# Altium footprint library S7CAS_LIB2023.PcbLib: 100 footprints (part 4 of 7)
Each footprint in its own frame and in the unit in brackets; x right, y up, seen from the top. Pads: shape width x height; smd on the part's side, far side on the other; paste and mask are expansions set on the pad; w line width, h text height; cw(c..) or ccw(c..) is an arc to the next point about the centre after c.
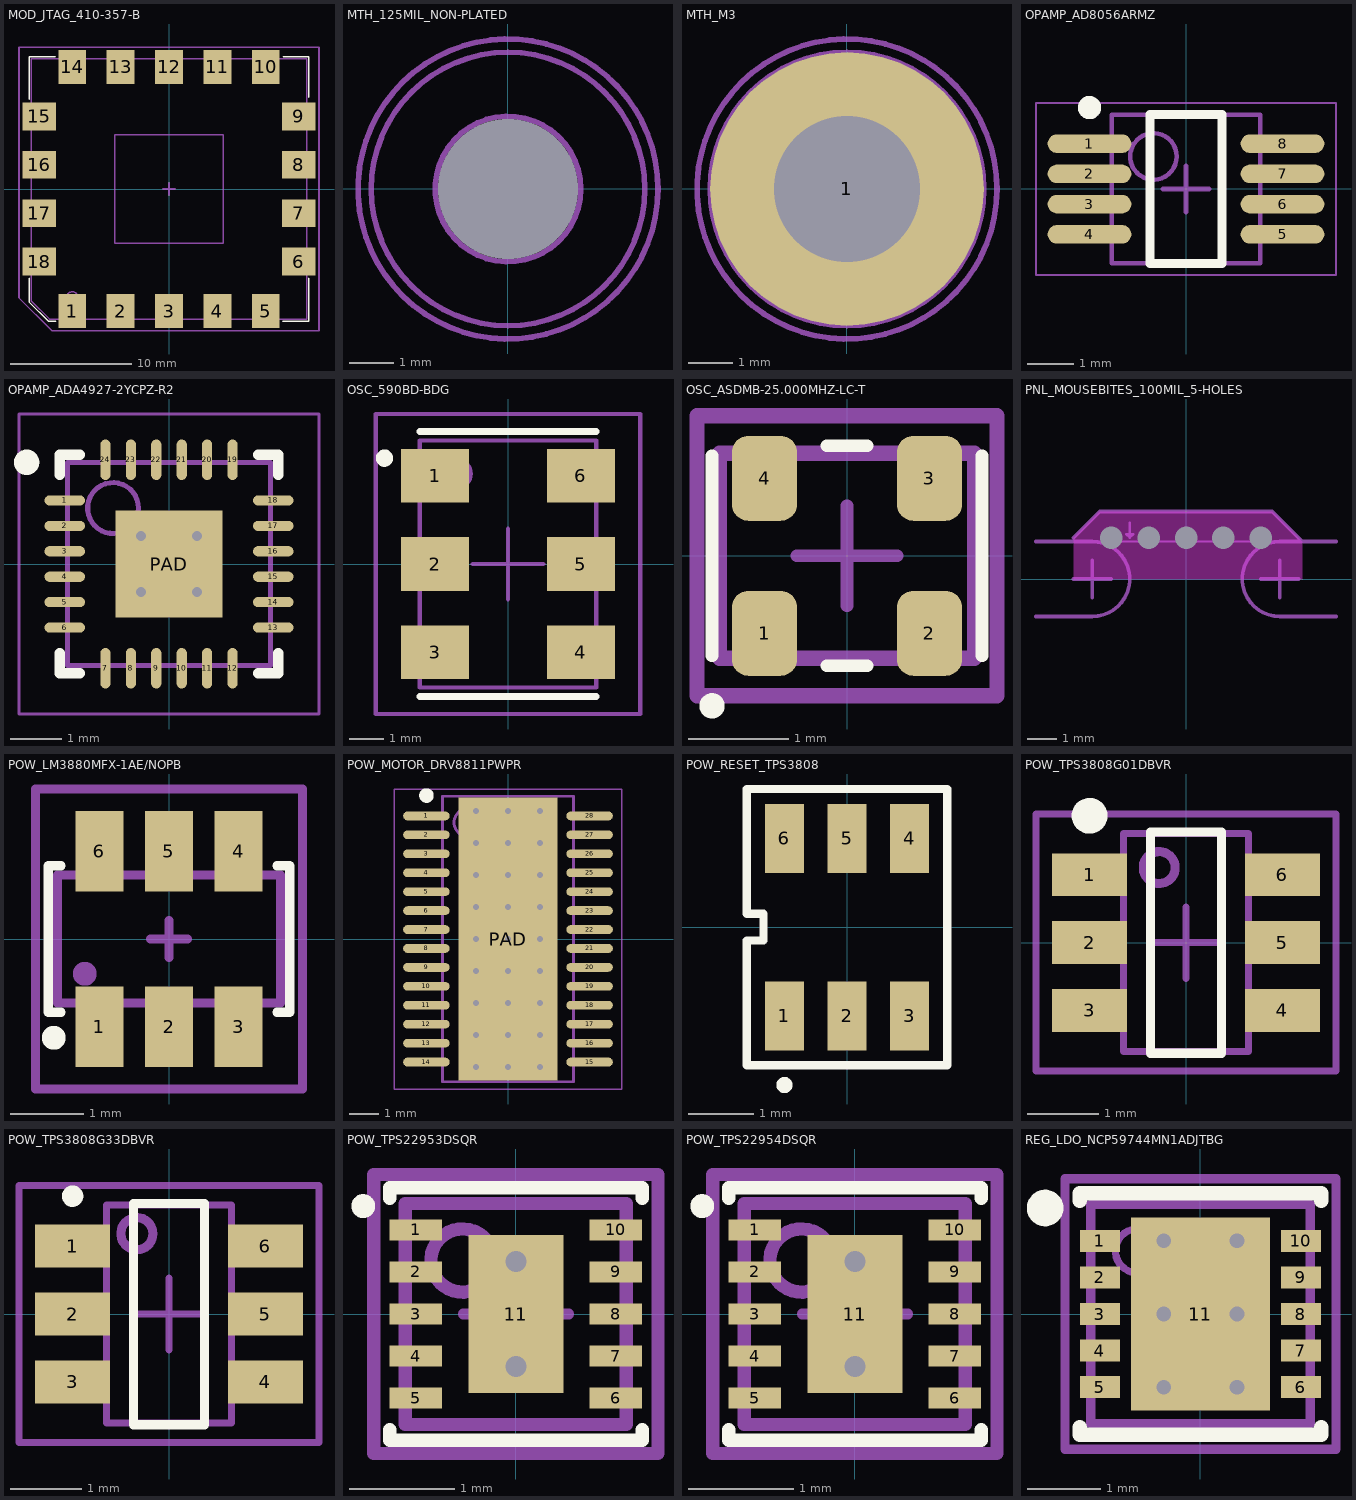
[diagram p3: the footprints below, top view; thin cyan lines are the x and y axes]

## MOD_JTAG_410-357-B [mm]
pads (18):
  rect 2.3x2.8 smd paste-0.025 mask+0.07: 1(-8,-10.1) 2(-4,-10.1) 3(0,-10.1) 4(4,-10.1) 5(8,-10.1) 10(8,10.1) 11(4,10.1) 12(0,10.1) 13(-4,10.1) 14(-8,10.1)
  rect 2.8x2.3 smd paste-0.025 mask+0.07: 6(10.725,-6) 7(10.725,-2) 8(10.725,2) 9(10.725,6) 15(-10.725,6) 16(-10.725,2) 17(-10.725,-2) 18(-10.725,-6)
Top Overlay:
  lines w0.127: -11.57,-7.39 -11.57,-9.339 -9.969,-10.94 -9.37,-10.94 ; -11.57,7.43 -11.57,10.94 -9.41,10.94 ; 9.39,-10.94 11.57,-10.94 11.57,-7.39 ; 9.45,10.94 11.57,10.94 11.57,7.59
Mechanical 1:
  circle w0.127: c-8,-9 r0.5
  lines w0.127: -11.38,-9.25 -9.88,-10.75 11.38,-10.75 11.38,10.75 -11.38,10.75 -11.38,-9.25 ; -4.5,-4.5 -4.5,4.5 4.5,4.5 4.5,-4.5 -4.5,-4.5
Mechanical 15:
  lines w0.127: -0.5,0 0.5,0 ; 0,-0.5 0,0.5 ; -12.4,-9 -9.7,-11.7 12.4,-11.7 12.4,11.7 -12.4,11.7 -12.4,-9
3D body: height 1.5, standoff 0, extent -11.38,-10.75 11.38,10.75
3D body: height 2.5, standoff 1.5, extent -4.5,-4.5 4.5,4.5

## MTH_125MIL_NON-PLATED [mm]
pads (1):
  round 0 hole 3.175 unplated paste-2539.97 mask+0.102: 0(0,0)
Mechanical 1:
  circle w0.127: c0,0 r3.1
  circle w0.127: c0,0 r1.65
Mechanical 2:
  circle w0.127: c0,0 r3.1
  circle w0.127: c0,0 r1.65
Mechanical 15:
  circle w0.127: c0,0 r3.4
  lines w0.127: -0.508,0 0.508,0 ; 0,-0.508 0,0.508
Mechanical 16:
  circle w0.127: c0,0 r3.4
  lines w0.127: -0.508,0 0.508,0 ; 0,-0.508 0,0.508

## MTH_M3 [mm]
pads (1):
  round 6.2 hole 3.3 paste-2539.97 mask+0.07: 1(0,0)
Mechanical 1:
  circle w0.127: c0,0 r3.1
  circle w0.127: c0,0 r1.65
Mechanical 2:
  circle w0.127: c0,0 r3.1
  circle w0.127: c0,0 r1.65
Mechanical 15:
  circle w0.127: c0,0 r3.4
  lines w0.127: -0.508,0 0.508,0 ; 0,-0.508 0,0.508
Mechanical 16:
  circle w0.127: c0,0 r3.4
  lines w0.127: -0.508,0 0.508,0 ; 0,-0.508 0,0.508

## OPAMP_AD8056ARMZ [mm] "SOP, 8-Leads, Body 3x3mm, Pitch 0.65mm, IPC Medium Density"
height 1.1
pads (8):
  oval 1.8x0.4 smd mask+0.07: 1(-2.075,0.975) 2(-2.075,0.325) 3(-2.075,-0.325) 4(-2.075,-0.975) 5(2.075,-0.975) 6(2.075,-0.325) 7(2.075,0.325) 8(2.075,0.975)
Top Overlay:
  circle w0.25: c-2.075,1.75 r0.125
  lines w0.2: -0.775,-1.6 -0.775,1.6 0.775,1.6 0.775,-1.6 -0.775,-1.6
Mechanical 13:
  circle w0.1: c-0.7,0.7 r0.5
  lines w0.1: -1.6,-1.6 -1.6,1.6 1.6,1.6 1.6,-1.6 -1.6,-1.6
Mechanical 15:
  lines w0.05: -3.225,-1.85 -3.225,1.85 3.225,1.85 3.225,-1.85 -3.225,-1.85
  lines w0.1: -0.5,0 0.5,0 ; 0,-0.5 0,0.5
3D body "User Library-DCT-8.STEP": height 1.3, standoff 0, extent -2.125,-1.525 2.075,1.525

## OPAMP_ADA4927-2YCPZ-R2 [mm] "QFN, 24-Leads, Body 4,00x4,00mm, Pitch 0,50mm, Thermal Pad 2,10x2,10mm, IPC Low Density"
height 1
pads (25):
  oval 0.8x0.2 smd mask+0.075: 1(-2.05,1.25) 2(-2.05,0.75) 3(-2.05,0.25) 4(-2.05,-0.25) 5(-2.05,-0.75) 6(-2.05,-1.25) 13(2.05,-1.25) 14(2.05,-0.75) 15(2.05,-0.25) 16(2.05,0.25) 17(2.05,0.75) 18(2.05,1.25)
  oval 0.2x0.8 smd mask+0.075: 7(-1.25,-2.05) 8(-0.75,-2.05) 9(-0.25,-2.05) 10(0.25,-2.05) 11(0.75,-2.05) 12(1.25,-2.05) 19(1.25,2.05) 20(0.75,2.05) 21(0.25,2.05) 22(-0.25,2.05) 23(-0.75,2.05) 24(-1.25,2.05)
  rect 2.1x2.1 smd mask+0.075: PAD(0,0)
via 0.55,-0.55 diameter 0.5 hole 0.2
via -0.55,-0.55 diameter 0.5 hole 0.2
via 0.55,0.55 diameter 0.5 hole 0.2
via -0.55,0.55 diameter 0.5 hole 0.2
Top Overlay:
  circle w0.25: c-2.8,2 r0.125
  lines w0.2: -2.15,-1.75 -2.15,-2.15 -1.75,-2.15 ; -2.15,1.75 -2.15,2.15 -1.75,2.15 ; 1.75,-2.15 2.15,-2.15 2.15,-1.75 ; 1.75,2.15 2.15,2.15 2.15,1.75
Mechanical 13:
  circle w0.1: c-1.1,1.1 r0.5
  lines w0.1: -2,-2 2,-2 2,2 -2,2 -2,-2
Mechanical 15:
  lines w0.05: -2.95,-2.95 2.95,-2.95 2.95,2.95 -2.95,2.95 -2.95,-2.95
  lines w0.1: -0.5,0 0.5,0 ; 0,-0.5 0,0.5
3D body: height 1, standoff 0.02, extent -2,-2 2,2

## OSC_590BD-BDG [mm]
pads (6):
  rect 1.95x1.55 smd paste-0.025 mask+0.07: 1(-2.1,2.54) 2(-2.1,0) 3(-2.1,-2.54) 4(2.1,-2.54) 5(2.1,0) 6(2.1,2.54)
Top Overlay:
  circle w0.25: c-3.556,3.048 r0.125
  lines w0.2: -2.54,-3.81 -1.346,-3.81 2.54,-3.81 ; -2.54,3.81 -1.346,3.81 2.54,3.81
Mechanical 1:
  circle w0.127: c-1.5,2.6 r0.424
  lines w0.127: -2.54,-3.556 -2.54,3.556 2.54,3.556 2.54,-3.556 -2.54,-3.556
Mechanical 15:
  lines w0.127: -1.016,0 1.016,0 ; 0,-1.016 0,1.016 ; -3.81,-4.318 -3.81,4.318 3.81,4.318 3.81,-4.318 -3.81,-4.318
3D body: height 1.28, standoff 0, extent -2.54,-3.556 2.54,3.556
3D body: height 1.3, standoff 0, extent -1.921,2.141 -1.124,2.939

## OSC_ASDMB-25.000MHZ-LC-T [mm]
pads (4):
  rrect50% 0.65x0.85 smd paste-0.025 mask+0.07: 1(-0.825,-0.775) 2(0.825,-0.775) 3(0.825,0.775) 4(-0.825,0.775)
Top Overlay:
  circle w0.127: c-1.35,-1.5 r0.064
  lines w0.127: -1.35,-1 -1.35,1 ; -0.2,-1.1 0.2,-1.1 ; -0.2,1.1 0.2,1.1 ; 1.35,-1 1.35,1
Mechanical 1:
  circle w0.254: c-0.825,-0.6 r0.079
  lines w0.152: -1.275,-1.025 -1.275,1.025 1.275,1.025 1.275,-1.025 -1.275,-1.025
Mechanical 15:
  lines w0.127: -0.5,0 0.5,0 ; 0,-0.5 0,0.5
  lines w0.152: -1.5,-1.4 1.5,-1.4 1.5,1.4 -1.5,1.4 -1.5,-1.4
3D body "ASDMB.STEP": height 0.83, standoff -0.01, extent -1.25,-1 1.25,1

## PNL_MOUSEBITES_100MIL_5-HOLES [mil]
pads (5):
  round 0 hole 30 unplated mask+4: 0(-100,55) 0(-50,55) 0(0,55) 0(50,55) 0(100,55)
Top Layer:
  pour cut-out: -145,50
Keep-Out Layer:
  region: -150,0 -150,55 -115,90 115,90 155,50 155,0
Mechanical 1:
  lines w3: -150,50 145,50 ; -75,75 -75,55 ; -75,55 -80,60 -70,60 -75,55
  lines w5: -200,-50 -125,-50 ccw(c-125,0) -125,50 -200,50 ; -150,0 -100,0 ; -125,-25 -125,25 ; 100,0 150,0 ; 125,-25 125,25 ; 200,-50 125,-50 cw(c125,0) 125,50 200,50
  text "Board Edge" at -85,80 h20
Mechanical 15:
  lines w5: -150,55 -115,90 115,90 155,50
Multi-Layer:
  pour cut-out: -115,90 115,90 155,50 155,0 -150,0 -150,55

## POW_LM3880MFX-1AE/NOPB [mm]
pads (6):
  rect 0.65x1.1 smd paste-0.025 mask+0.07: 1(-0.95,-1.2) 2(0,-1.2) 3(0.95,-1.2) 4(0.95,1.2) 5(0,1.2) 6(-0.95,1.2)
Top Overlay:
  circle w0.254: c-1.575,-1.35 r0.035
  lines w0.127: -1.475,-1 -1.65,-1 -1.65,1 -1.475,1 ; 1.475,-1 1.65,-1 1.65,1 1.475,1
Mechanical 1:
  circle w0.254: c-1.15,-0.475 r0.035
  lines w0.127: -1.525,-0.875 -1.525,0.875 1.525,0.875 1.525,-0.875 -1.525,-0.875
Mechanical 15:
  lines w0.127: -0.254,0 0.254,0 ; 0,-0.254 0,0.254 ; -1.825,-2.05 -1.825,2.05 1.825,2.05 1.825,-2.05 -1.825,-2.05
3D body "User Library-SOT-23-6.step": height 1.09, standoff 0, extent -1.394,-1.254 1.4,1.172

## POW_MOTOR_DRV8811PWPR [mm] "TSOP, 28-Leads, Body 9,70x4,40mm, Pitch 0,65mm, Thermal Pad 9,70x3,40mm, IPC Medium Density"
height 1.2
pads (29):
  oval 1.6x0.3 smd: 1(-2.8,4.225) 2(-2.8,3.575) 3(-2.8,2.925) 4(-2.8,2.275) 5(-2.8,1.625) 6(-2.8,0.975) 7(-2.8,0.325) 8(-2.8,-0.325) 9(-2.8,-0.975) 10(-2.8,-1.625) 11(-2.8,-2.275) 12(-2.8,-2.925) 13(-2.8,-3.575) 14(-2.8,-4.225) 15(2.8,-4.225) 16(2.8,-3.575) 17(2.8,-2.925) 18(2.8,-2.275) 19(2.8,-1.625) 20(2.8,-0.975) 21(2.8,-0.325) 22(2.8,0.325) 23(2.8,0.975) 24(2.8,1.625) 25(2.8,2.275) 26(2.8,2.925) 27(2.8,3.575) 28(2.8,4.225)
  rect 3.4x9.7 smd paste-15 mask-15: PAD(0,0)
via -1.1,4.4 diameter 0.5 hole 0.2
via 0,4.4 diameter 0.5 hole 0.2
via 1.1,4.4 diameter 0.5 hole 0.2
via -1.1,3.3 diameter 0.5 hole 0.2
via 0,3.3 diameter 0.5 hole 0.2
via 1.1,3.3 diameter 0.5 hole 0.2
via -1.1,2.2 diameter 0.5 hole 0.2
via 0,2.2 diameter 0.5 hole 0.2
via 1.1,2.2 diameter 0.5 hole 0.2
via -1.1,1.1 diameter 0.5 hole 0.2
via 0,1.1 diameter 0.5 hole 0.2
via 1.1,1.1 diameter 0.5 hole 0.2
via -1.1,0 diameter 0.5 hole 0.2
via 0,0 diameter 0.5 hole 0.2
via 1.1,0 diameter 0.5 hole 0.2
via -1.1,-1.1 diameter 0.5 hole 0.2
via 0,-1.1 diameter 0.5 hole 0.2
via 1.1,-1.1 diameter 0.5 hole 0.2
via -1.1,-2.2 diameter 0.5 hole 0.2
via 0,-2.2 diameter 0.5 hole 0.2
via 1.1,-2.2 diameter 0.5 hole 0.2
via -1.1,-3.3 diameter 0.5 hole 0.2
via 0,-3.3 diameter 0.5 hole 0.2
via 1.1,-3.3 diameter 0.5 hole 0.2
via -1.1,-4.4 diameter 0.5 hole 0.2
via 0,-4.4 diameter 0.5 hole 0.2
via 1.1,-4.4 diameter 0.5 hole 0.2
Top Overlay:
  circle w0.25: c-2.8,4.925 r0.125
Top Paste:
  rectangle: -1.55,-2.58 1.55,2.58
Top Solder:
  rectangle: -1.55,-2.58 1.55,2.58
Mechanical 13:
  circle w0.1: c-1.35,4 r0.5
  lines w0.1: -2.25,-4.9 -2.25,4.9 2.25,4.9 2.25,-4.9 -2.25,-4.9
Mechanical 15:
  lines w0.05: -3.9,-5.15 -3.9,5.15 3.9,5.15 3.9,-5.15 -3.9,-5.15
  lines w0.1: -0.5,0 0.5,0 ; 0,-0.5 0,0.5
3D body "PMIC_MOTOR_DRV8811PWPR.step": height 1.2, standoff 0, extent -3.2,-4.9 3.2,4.9

## POW_RESET_TPS3808 [mm]
pads (6):
  rect 0.6x1.05 smd paste-0.025 mask+0.07: 1(-0.95,-1.35) 2(0,-1.35) 3(0.95,-1.35) 4(0.95,1.35) 5(0,1.35) 6(-0.95,1.35)
Top Overlay:
  circle w0.127: c-0.95,-2.4 r0.06
  lines w0.127: -1.525,-2.1 1.525,-2.1 1.525,2.1 -1.525,2.1 -1.525,0.203 -1.269,0.203 -1.269,-0.203 -1.525,-0.203 -1.525,-2.1
3D body "SOT23-6.step": height 1.3, standoff 0, extent -1.5,-1.5 1.5,1.5

## POW_TPS3808G01DBVR [mm]
pads (6):
  rect 1.05x0.6 smd paste-0.025 mask+0.07: 1(-1.35,0.95) 2(-1.35,0) 3(-1.35,-0.95) 4(1.35,-0.95) 5(1.35,0) 6(1.35,0.95)
Top Overlay:
  circle w0.25: c-1.35,1.775 r0.125
  lines w0.127: -0.5,-1.55 -0.5,1.55 0.5,1.55 0.5,-1.55 -0.5,-1.55
Mechanical 1:
  circle w0.127: c-0.375,1.05 r0.224
  lines w0.1: -0.875,-1.525 0.875,-1.525 0.875,1.525 -0.875,1.525 -0.875,-1.525
Mechanical 15:
  lines w0.1: -0.5,0 0.5,0 ; 0,-0.5 0,0.5 ; -2.1,-1.8 2.1,-1.8 2.1,1.8 -2.1,1.8 -2.1,-1.8
3D body "SOT23127P600-8N.step": height 1.45, standoff 0, extent -1.5,-1.525 1.5,1.525

## POW_TPS3808G33DBVR [mm]
pads (6):
  rect 1.05x0.6 smd paste-0.025 mask+0.07: 1(-1.35,0.95) 2(-1.35,0) 3(-1.35,-0.95) 4(1.35,-0.95) 5(1.35,0) 6(1.35,0.95)
Top Overlay:
  circle w0.15: c-1.35,1.65 r0.075
  lines w0.127: -0.5,-1.55 0.5,-1.55 0.5,1.55 -0.5,1.55 -0.5,-1.55
Mechanical 1:
  circle w0.127: c-0.45,1.125 r0.225
  lines w0.1: -0.875,-1.525 -0.875,1.525 0.875,1.525 0.875,-1.525 -0.875,-1.525
Mechanical 15:
  lines w0.1: -0.5,0 0.5,0 ; 0,-0.5 0,0.5 ; -2.1,-1.8 -2.1,1.8 2.1,1.8 2.1,-1.8 -2.1,-1.8
3D body "SOT23127P600-8N.step": height 1.45, standoff 0, extent -1.5,-1.525 1.5,1.525

## POW_TPS22953DSQR [mm]
pads (11):
  rect 0.5x0.2 smd paste+0 mask+0.06: 1(-0.95,0.8) 2(-0.95,0.4) 3(-0.95,0) 4(-0.95,-0.4) 5(-0.95,-0.8) 6(0.95,-0.8) 7(0.95,-0.4) 8(0.95,0) 9(0.95,0.4) 10(0.95,0.8)
  rect 0.9x1.5 smd paste-5 mask+0.07: 11(0,0)
via 0,-0.5 diameter 0.4 hole 0.2
via 0,0.5 diameter 0.4 hole 0.2
Top Overlay:
  circle w0.127: c-1.45,1.025 r0.05
  lines w0.127: -1.2,-1.1 -1.2,-1.2 1.2,-1.2 1.2,-1.1 ; -1.2,1.1 -1.2,1.2 1.2,1.2 1.2,1.1
Top Paste:
  rectangle: -0.425,-0.69 0.425,0.69
Mechanical 1:
  circle w0.127: c-0.508,0.508 r0.3
  lines w0.127: -1.05,-1.05 1.05,-1.05 1.05,1.05 -1.05,1.05 -1.05,-1.05
Mechanical 15:
  lines w0.1: -0.5,0 0.5,0 ; 0,-0.5 0,0.5
  lines w0.127: -1.35,-1.325 1.35,-1.325 1.35,1.325 -1.35,1.325 -1.35,-1.325
3D body "PSON40P200X80_HS-11N.step": height 0.8, standoff 0, extent -1.051,-1.05 1.051,1.05

## POW_TPS22954DSQR [mm]
pads (11):
  rect 0.5x0.2 smd paste+0 mask+0.06: 1(-0.95,0.8) 2(-0.95,0.4) 3(-0.95,0) 4(-0.95,-0.4) 5(-0.95,-0.8) 6(0.95,-0.8) 7(0.95,-0.4) 8(0.95,0) 9(0.95,0.4) 10(0.95,0.8)
  rect 0.9x1.5 smd paste-5 mask+0.07: 11(0,0)
via 0,0.5 diameter 0.4 hole 0.2
via 0,-0.5 diameter 0.4 hole 0.2
Top Overlay:
  circle w0.127: c-1.45,1.025 r0.05
  lines w0.127: -1.2,-1.1 -1.2,-1.2 1.2,-1.2 1.2,-1.1 ; -1.2,1.1 -1.2,1.2 1.2,1.2 1.2,1.1
Top Paste:
  rectangle: -0.425,-0.69 0.425,0.69
Mechanical 1:
  circle w0.127: c-0.508,0.508 r0.3
  lines w0.127: -1.05,-1.05 -1.05,1.05 1.05,1.05 1.05,-1.05 -1.05,-1.05
Mechanical 15:
  lines w0.1: -0.5,0 0.5,0 ; 0,-0.5 0,0.5
  lines w0.127: -1.35,-1.325 -1.35,1.325 1.35,1.325 1.35,-1.325 -1.35,-1.325
3D body "PSON40P200X80_HS-11N.step": height 0.8, standoff 0, extent -1.051,-1.05 1.051,1.05

## REG_LDO_NCP59744MN1ADJTBG [mm]
pads (11):
  rect 0.55x0.3 smd paste-0.025 mask+0.04: 1(-1.375,1) 2(-1.375,0.5) 3(-1.375,0) 4(-1.375,-0.5) 5(-1.375,-1) 6(1.375,-1) 7(1.375,-0.5) 8(1.375,0) 9(1.375,0.5) 10(1.375,1)
  rect 1.9x2.64 smd paste-2.64 mask+0.03: 11(0,0)
via -0.5,0 diameter 0.4 hole 0.2
via 0.5,0 diameter 0.4 hole 0.2
via -0.5,1 diameter 0.4 hole 0.2
via -0.5,-1 diameter 0.4 hole 0.2
via 0.5,1 diameter 0.4 hole 0.2
via 0.5,-1 diameter 0.4 hole 0.2
Top Overlay:
  circle w0.25: c-2.125,1.45 r0.125
  lines w0.2: -1.65,-1.55 -1.65,-1.65 1.625,-1.65 ; -1.65,1.55 -1.65,1.65 ; -1.625,1.65 1.65,1.65 1.65,1.55 ; 1.65,-1.65 1.65,-1.55
Top Paste:
  rectangle: -0.9,-1.25 0.9,-0.1
  rectangle: -0.9,0.1 0.9,1.25
Mechanical 1:
  circle w0.1: c-0.864,0.864 r0.3
  lines w0.1: -1.5,-1.5 1.5,-1.5 1.5,1.5 -1.5,1.5 -1.5,-1.5
  lines w0.127: -1.5,-1.5 -1.5,1.5 1.5,1.5 1.5,-1.5 -1.5,-1.5
Mechanical 15:
  lines w0.1: -0.5,0 0.5,0 ; 0,-0.5 0,0.5
  lines w0.127: -1.854,-1.85 -1.854,1.85 1.854,1.85 1.854,-1.85 -1.854,-1.85
3D body "QFN127P600-8N_2.step": height 1, standoff 0, extent -1.501,-1.5 1.501,1.5